# Altium footprint library SM_SOD-128.PcbLib: 1 footprints
Each footprint in its own frame and in the unit in brackets; x right, y up, seen from the top. Pads: shape width x height; smd on the part's side, far side on the other; paste and mask are expansions set on the pad; w line width, h text height; cw(c..) or ccw(c..) is an arc to the next point about the centre after c.
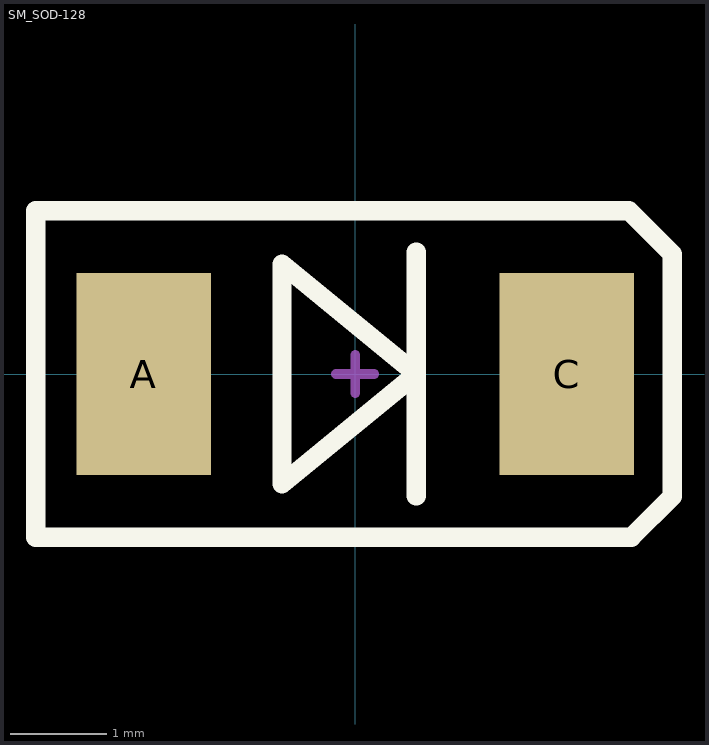
[diagram p0: the footprint, top view; thin cyan lines are the x and y axes]

## SM_SOD-128 [mm]
pads (2):
  rect 1.4x2.1 smd: A(-2.2,0) C(2.2,0)
Top Overlay:
  lines w0.2: 0.635,1.27 0.635,-1.27 0.635,0 ; 0.635,0 -0.762,-1.143 -0.762,1.143 0.635,0 ; -3.325,-1.7 -3.325,1.7 -1.76,1.7 2.85,1.7 3.3,1.25 3.3,-1.275 2.875,-1.7 -0.64,-1.7 -3.325,-1.7
Mechanical 1:
  lines w0.1: -0.2,0 0.2,0 ; 0,-0.2 0,0.2
3D body: height 1.1, standoff 0, extent -2.1,-1.8 2.1,1.8